# Altium integrated library RMCF0603JT10K0.IntLib: 1 symbol
Pins are listed as number, name and electrical type; pins without a type are passive.

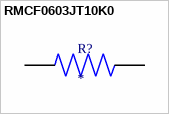
[diagram p0: symbol RMCF0603JT10K0]

## RMCF0603JT10K0
designator R?
MP: RMCF0603JT10K0; Package: None; Price: None; Value: *; Availability: Unavailable
footprint RESC1508X55N
pins: 1, 2